# Altium schematic symbol library D8xL12mm_Aluminum_Electrolytic_Capacitor_THT.SchLib: 1 symbol
Pins are listed as number, name and electrical type; pins without a type are passive.

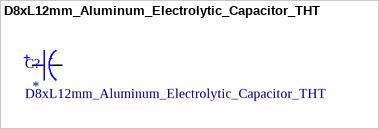
[diagram p0: symbol D8xL12mm_Aluminum_Electrolytic_Capacitor_THT]

## D8xL12mm_Aluminum_Electrolytic_Capacitor_THT
designator C?
4.7uF 500V ±20% Plugin,D8xL12mm  Aluminum Electrolytic Capacitors - Leaded ROHS; LCSC: *
footprint D8xL12mm_Aluminum_Electrolytic_Capacitor_THT
pins: 1 +, 2 -